# Altium schematic symbol library WeAct-STM32F103VEXX.SchLib: 1 symbol
Pins are listed as number, name and electrical type; pins without a type are passive.

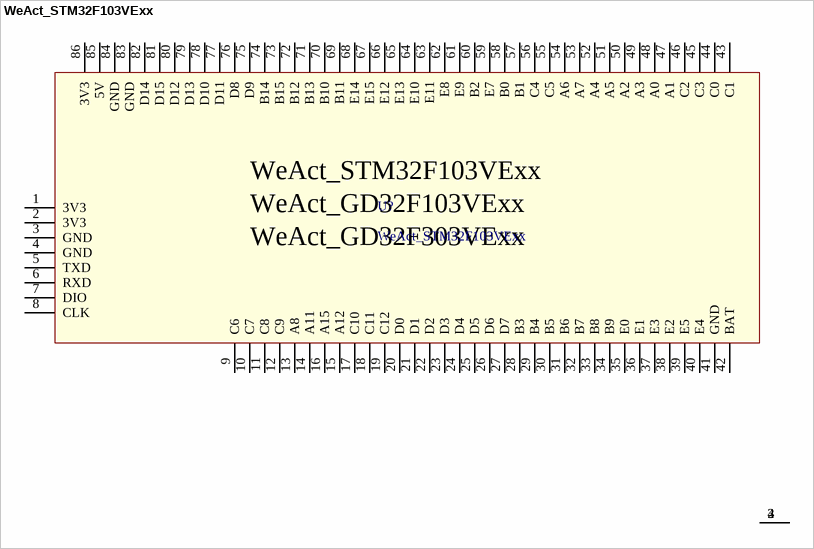
[diagram p0: symbol WeAct_STM32F103VExx]

## WeAct_STM32F103VExx
designator U?
footprint PCBComponent_1
pins: 1 3V3, 2, 2 3V3, 3, 3 GND, 4, 4 GND, 5 TXD, 6 RXD, 7 DIO, 8 CLK, 9 C6, 10 C7, 11 C8, 12 C9, 13 A8, 14 A11, 15 A12, 16 A15, 17 C10, 18 C11, 19 C12, 20 D0, 21 D1, 22 D2, 23 D3, 24 D4, 25 D5, 26 D6, 27 D7, 28 B3, 29 B4, 30 B5, 31 B6, 32 B7, 33 B8, 34 B9, 35 E0, 36 E1, 37 E3, 38 E2, 39 E5, 40 E4, 41 GND, 42 BAT, 43 C1, 44 C0, 45 C3, 46 C2, 47 A1, 48 A0, 49 A3, 50 A2, 51 A5, 52 A4, 53 A7, 54 A6, 55 C5, 56 C4, 57 B1, 58 B0, 59 E7, 60 B2, 61 E9, 62 E8, 63 E11, 64 E10, 65 E13, 66 E12, 67 E15, 68 E14, 69 B11, 70 B10, 71 B13, 72 B12, 73 B15, 74 B14, 75 D9, 76 D8, 77 D11, 78 D10, 79 D13, 80 D12, 81 D15, 82 D14, 83 GND, 84 GND, 85 5V, 86 3V3
text: WeAct_GD32F103VExx; WeAct_GD32F303VExx